# EAGLE library part MT47H128M16 (library micron)
MT47H128M16 edit this description Auto generated by make-symbol-device-package-bsdl.ulp Rev. 44 Source: MT47H128M16.txt
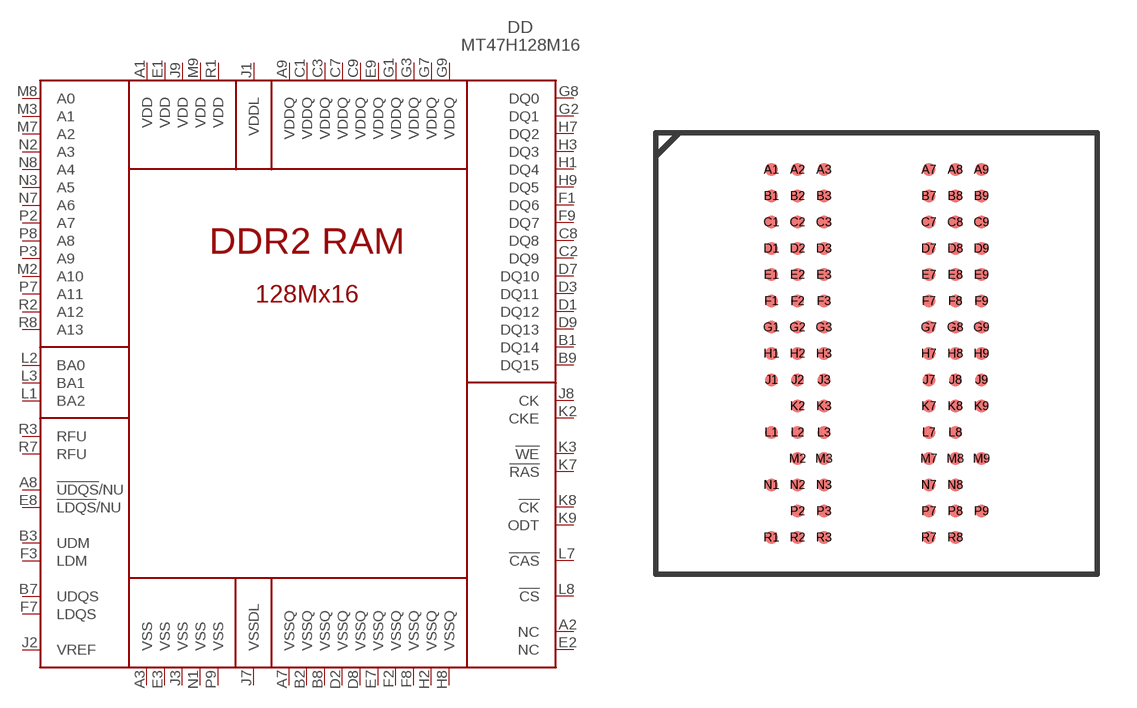
[diagram p1: symbol with the pads of FBGA84; footprint FBGA84]

Designator prefix DD

## MT47H128M16  [FBGA84]
A1  VDD  pwr
A2  NC  nc
A3  VSS  pwr
A7  VSSQ  pwr
A8  !UDQS!/NU
A9  VDDQ  pwr
B1  DQ14  out
B2  VSSQ  pwr
B3  UDM
B7  UDQS
B8  VSSQ  pwr
B9  DQ15  out
C1  VDDQ  pwr
C2  DQ9  out
C3  VDDQ  pwr
C7  VDDQ  pwr
C8  DQ8  out
C9  VDDQ  pwr
D1  DQ12  out
D2  VSSQ  pwr
D3  DQ11  out
D7  DQ10  out
D8  VSSQ  pwr
D9  DQ13  out
E1  VDD  pwr
E2  NC  nc
E3  VSS  pwr
E7  VSSQ  pwr
E8  !LDQS!/NU
E9  VDDQ  pwr
F1  DQ6  out
F2  VSSQ  pwr
F3  LDM
F7  LDQS
F8  VSSQ  pwr
F9  DQ7  out
G1  VDDQ  pwr
G2  DQ1  out
G3  VDDQ  pwr
G7  VDDQ  pwr
G8  DQ0  out
G9  VDDQ  pwr
H1  DQ4  out
H2  VSSQ  pwr
H3  DQ3  out
H7  DQ2  out
H8  VSSQ  pwr
H9  DQ5  out
J1  VDDL  pwr
J2  VREF  pas
J3  VSS  pwr
J7  VSSDL  pwr
J8  CK  in
J9  VDD  pwr
K2  CKE  in
K3  !WE  in
K7  !RAS  in
K8  !CK  in
K9  ODT  in
L1  BA2  in
L2  BA0  in
L3  BA1  in
L7  !CAS  in
L8  !CS  in
M2  A10  in
M3  A1  in
M7  A2  in
M8  A0  in
M9  VDD  in
N1  VSS  pwr
N2  A3  in
N3  A5  in
N7  A6  in
N8  A4  in
P2  A7  in
P3  A9  in
P7  A11  in
P8  A8  in
P9  VSS  pwr
R1  VDD  pwr
R2  A12  in
R3  RFU  in
R7  RFU  in
R8  A13  in

## Footprint FBGA84 (pad centres in mm)
MT47H128M16 edit this description Auto generated by make-symbol-device-package-bsdl.ulp Rev. 44 Source: MT47H128M16.txt
smd 0.5 x 0.5: A1 -4,7; A2 -3,7; A3 -2,7; A7 2,7; A8 3,7; A9 4,7; B1 -4,6; B2 -3,6; B3 -2,6; B7 2,6; B8 3,6; B9 4,6; C1 -4,5; C2 -3,5; C3 -2,5; C7 2,5; C8 3,5; C9 4,5; D1 -4,4; D2 -3,4; D3 -2,4; D7 2,4; D8 3,4; D9 4,4; E1 -4,3; E2 -3,3; E3 -2,3; E7 2,3; E8 3,3; E9 4,3; F1 -4,2; F2 -3,2; F3 -2,2; F7 2,2; F8 3,2; F9 4,2; G1 -4,1; G2 -3,1; G3 -2,1; G7 2,1; G8 3,1; G9 4,1; H1 -4,0; H2 -3,0; H3 -2,0; H7 2,0; H8 3,0; H9 4,0; J1 -4,-1; J2 -3,-1; J3 -2,-1; J7 2,-1; J8 3,-1; J9 4,-1; K2 -3,-2; K3 -2,-2; K7 2,-2; K8 3,-2; K9 4,-2; L1 -4,-3; L2 -3,-3; L3 -2,-3; L7 2,-3; L8 3,-3; M2 -3,-4; M3 -2,-4; M7 2,-4; M8 3,-4; M9 4,-4; N1 -4,-5; N2 -3,-5; N3 -2,-5; N7 2,-5; N8 3,-5; P2 -3,-6; P3 -2,-6; P7 2,-6; P8 3,-6; P9 4,-6; R1 -4,-7; R2 -3,-7; R3 -2,-7; R7 2,-7; R8 3,-7